# Altium footprint library PCB - CONNECTORS - TE 3-794677-4.PcbLib: 1 footprints
Each footprint in its own frame and in the unit in brackets; x right, y up, seen from the top. Pads: shape width x height; smd on the part's side, far side on the other; paste and mask are expansions set on the pad; w line width, h text height; cw(c..) or ccw(c..) is an arc to the next point about the centre after c.
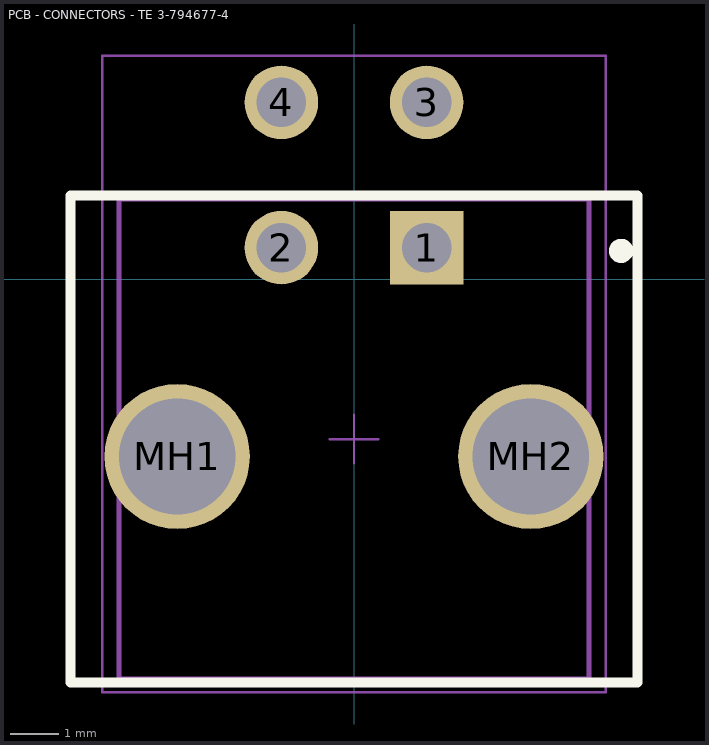
[diagram p0: the footprint, top view; thin cyan lines are the x and y axes]

## PCB - CONNECTORS - TE 3-794677-4 [mm]
height 8.76
pads (6):
  rect 1.52x1.52 hole 1.02: 1(1.5,0.65)
  round 1.52 hole 1.02: 2(-1.5,0.65) 3(1.5,3.65) 4(-1.5,3.65)
  round 3 hole 2.4 unplated: MH1(-3.65,-3.66) MH2(3.65,-3.66)
Top Overlay:
  circle w0.25: c5.512,0.584 r0.125
  lines w0.2: -5.85,-8.325 5.85,-8.325 5.85,1.725 -5.85,1.725 -5.85,-8.325
Mechanical 13:
  lines w0.1: -4.85,-8.25 4.85,-8.25 4.85,1.65 -4.85,1.65 -4.85,-8.25
Mechanical 15:
  lines w0.05: -0.5,-3.3 0.5,-3.3 ; 0,-3.8 0,-2.8 ; -5.2,-8.525 -5.2,4.61 5.2,4.61 5.2,-8.525 -5.2,-8.525
3D body "c-3-794677-4-j-3d.stp": height 8.73, standoff -2.99, extent -4.996,-8.28 5.004,3.96